# EAGLE library part IS31FL3737 (library LED)
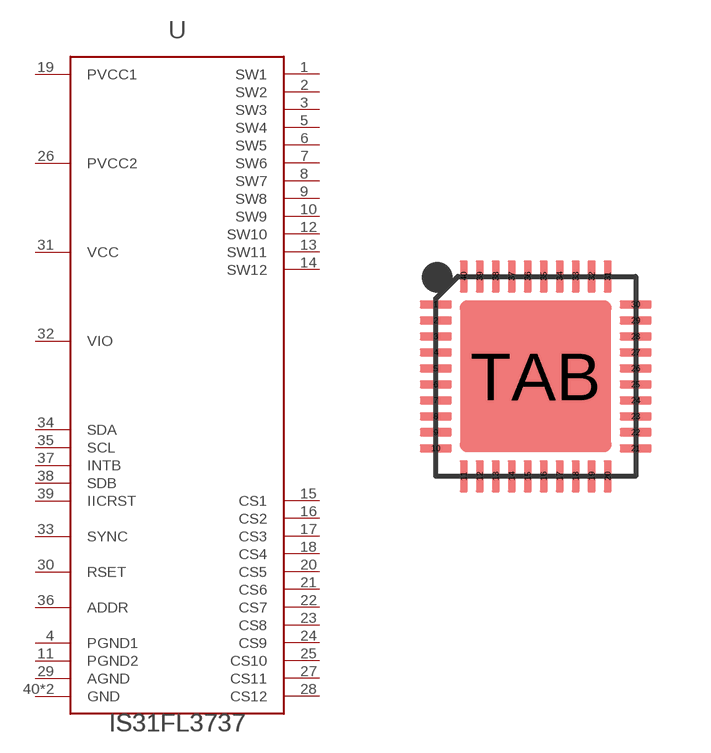
[diagram p2: symbol with the pads of QFN-40; footprint QFN-40]

Designator prefix U

## IS31FL3737  [QFN-40]
1  SW1
2  SW2
3  SW3
4  PGND1
5  SW4
6  SW5
7  SW6
8  SW7
9  SW8
10  SW9
11  PGND2
12  SW10
13  SW11
14  SW12
15  CS1
16  CS2
17  CS3
18  CS4
19  PVCC1
20  CS5
21  CS6
22  CS7
23  CS8
24  CS9
25  CS10
26  PVCC2
27  CS11
28  CS12
29  AGND
30  RSET
31  VCC
32  VIO
33  SYNC
34  SDA
35  SCL
36  ADDR
37  INTB
38  SDB
39  IICRST
40  GND
TAB  GND

## Footprint QFN-40 (pad centres in mm)
QFN44 footprint
smd 0.8 x 0.2: 1 -2.5,1.8; 2 -2.5,1.4; 3 -2.5,1; 4 -2.5,0.6; 5 -2.5,0.2; 6 -2.5,-0.2; 7 -2.5,-0.6; 8 -2.5,-1; 9 -2.5,-1.4; 10 -2.5,-1.8; 21 2.5,-1.8; 22 2.5,-1.4; 23 2.5,-1; 24 2.5,-0.6; 25 2.5,-0.2; 26 2.5,0.2; 27 2.5,0.6; 28 2.5,1; 29 2.5,1.4; 30 2.5,1.8
smd 0.2 x 0.8: 11 -1.8,-2.5; 12 -1.4,-2.5; 13 -1,-2.5; 14 -0.6,-2.5; 15 -0.2,-2.5; 16 0.2,-2.5; 17 0.6,-2.5; 18 1,-2.5; 19 1.4,-2.5; 20 1.8,-2.5; 31 1.8,2.5; 32 1.4,2.5; 33 1,2.5; 34 0.6,2.5; 35 0.2,2.5; 36 -0.2,2.5; 37 -0.6,2.5; 38 -1,2.5; 39 -1.4,2.5; 40 -1.8,2.5
smd 3.8 x 3.8: TAB 0,0